# EAGLE library part PI2.54 (library Connector)
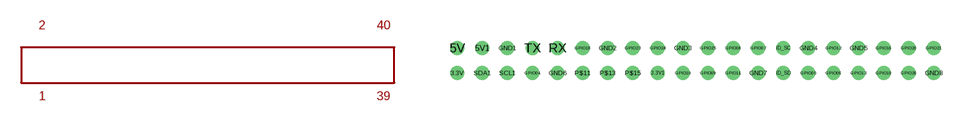
[diagram p2: symbol with the pads of PI2.54; footprint PI2.54]

Designator prefix -

## PI2.54  [PI2.54]
3.3V  3.3V
3.3V1  3.3V
5V  5V
5V1  5V
GND1  GND
GND2  GND
GND3  GND
GND4  GND
GND5  GND
GND6  GND
GND7  GND
GND8  GND
GPIO04  P$7
GPIO05  P$29
GPIO06  P$31
GPIO07  P$26
GPIO08  P$24
GPIO09  P$21
GPIO10  P$19
GPIO11  P$23
GPIO12  P$32
GPIO13  P$33
GPIO16  P$36
GPIO18  P$12
GPIO19  P$35
GPIO20  P$38
GPIO21  P$40
GPIO23  P$16
GPIO24  P$18
GPIO25  P$22
GPIO26  P$37
ID_SC  P$28
ID_SD  P$27
P$11  P$11
P$13  P$13
P$15  P$15
RX  RX
SCL1  P$5
SDA1  P$3
TX  TX

## Footprint PI2.54 (pad centres in mm)
drill 0.8 pad 1.4: 3.3V 0,-2.54; 3.3V1 20.32,-2.54; 5V 0,0; 5V1 2.54,0; GND1 5.08,0; GND2 15.24,0; GND3 22.86,0; GND4 35.56,0; GND5 40.64,0; GND6 10.16,-2.54; GND7 30.48,-2.54; GND8 48.26,-2.54; GPIO04 7.62,-2.54; GPIO05 35.56,-2.54; GPIO06 38.1,-2.54; GPIO07 30.48,0; GPIO08 27.94,0; GPIO09 25.4,-2.54; GPIO10 22.86,-2.54; GPIO11 27.94,-2.54; GPIO12 38.1,0; GPIO13 40.64,-2.54; GPIO16 43.18,0; GPIO18 12.7,0; GPIO19 43.18,-2.54; GPIO20 45.72,0; GPIO21 48.26,0; GPIO23 17.78,0; GPIO24 20.32,0; GPIO25 25.4,0; GPIO26 45.72,-2.54; ID_SC 33.02,0; ID_SD 33.02,-2.54; P$11 12.7,-2.54; P$13 15.24,-2.54; P$15 17.78,-2.54; RX 10.16,0; SCL1 5.08,-2.54; SDA1 2.54,-2.54; TX 7.62,0